# Altium footprint library ActiveComponents.PcbLib: 18 footprints (part 2 of 2)
Each footprint in its own frame and in the unit in brackets; x right, y up, seen from the top. Pads: shape width x height; smd on the part's side, far side on the other; paste and mask are expansions set on the pad; w line width, h text height; cw(c..) or ccw(c..) is an arc to the next point about the centre after c.
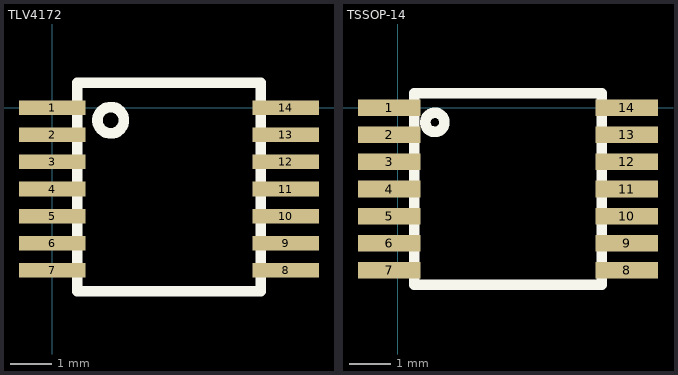
[diagram p1: the footprints below, top view; thin cyan lines are the x and y axes]

## TLV4172 [mm] "14TSSOP"
height 1.2
pads (14):
  rect 1.6x0.35 smd: 1(0,0) 2(0,-0.65) 3(0,-1.3) 4(0,-1.95) 5(0,-2.6) 6(0,-3.25) 7(0,-3.9) 8(5.6,-3.9) 9(5.6,-3.25) 10(5.6,-2.6) 11(5.6,-1.95) 12(5.6,-1.3) 13(5.6,-0.65) 14(5.6,0)
Top Overlay:
  circle w0.254: c1.4,-0.3 r0.316
  lines w0.254: 0.6,-4.4 5,-4.4 5,0.6 0.6,0.6 0.6,-4.4

## TSSOP-14 [mm] "TSSOP-14"
pads (14):
  rect 1.5x0.4 smd: 1(-0.2,0) 2(-0.2,-0.65) 3(-0.2,-1.3) 4(-0.2,-1.95) 5(-0.2,-2.6) 6(-0.2,-3.25) 7(-0.2,-3.9) 8(5.5,-3.9) 9(5.5,-3.25) 10(5.5,-2.6) 11(5.5,-1.95) 12(5.5,-1.3) 13(5.5,-0.65) 14(5.5,0)
Top Overlay:
  circle w0.254: c0.895,-0.35 r0.23
  lines w0.254: 0.4,-4.25 0.4,0.35 4.9,0.35 4.9,-4.25 0.4,-4.25